# Altium schematic symbol library Project Resistors.SchLib: 36 symbols
Pins are listed as number, name and electrical type; pins without a type are passive.

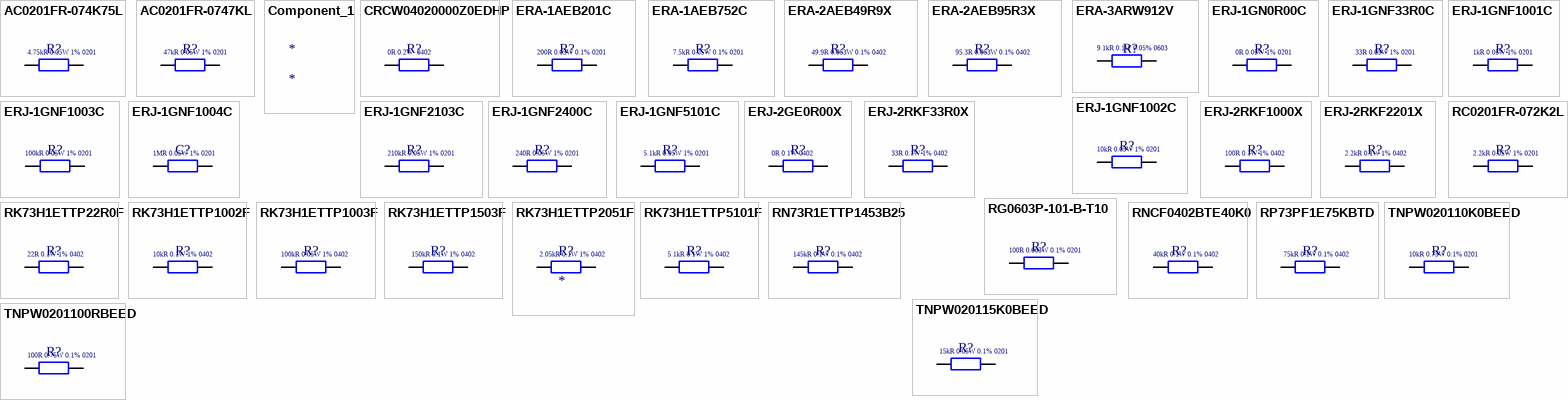
[diagram p0: symbols AC0201FR-074K75L to TNPW0201100RBEED]

## AC0201FR-074K75L
designator R?  (value not drawn)
4.75 kOhms ±1% 0.05W, 1/20W Chip Resistor 0201 (0603 Metric) Automotive AEC-Q200, Moisture Resistant Thick Film; ComponentLink1Description: New link; ComponentLink1URL: https://www.digikey.com.au/en/products/detail/yageo/AC0201FR-074K75L/5894685; Supplier 1: Digikey; Supplier Part Number 1: YAG5220CT-ND
footprint RESC0603X03L (Chip Resistor, Body 0.6x0.3mm, IPC High Density (0201 Imperial))
pins: 1, 2
text: 4.75kR 0.05W 1% 0201

## AC0201FR-0747KL
designator R?  (value not drawn)
47 kOhms ±1% 0.05W, 1/20W Chip Resistor 0201 (0603 Metric) Automotive AEC-Q200, Moisture Resistant Thick Film; ComponentLink1Description: New link; ComponentLink1URL: https://www.digikey.com.au/en/products/detail/yageo/AC0201FR-0747KL/5894664; Supplier 1: Digikey; Supplier Part Number 1: YAG3425CT-ND
footprint RESC0603X03L (Chip Resistor, Body 0.6x0.3mm, IPC High Density (0201 Imperial))
pins: 1, 2
text: 47kR 0.05W 1% 0201

## Component_1
designator *

## CRCW04020000Z0EDHP
designator R?  (value not drawn)
0 Ohms Jumper Chip Resistor 0402 (1005 Metric) Automotive AEC-Q200, Pulse Withstanding Thick Film; ComponentLink1Description: New link; ComponentLink1URL: https://www.digikey.com.au/en/products/detail/vishay-dale/CRCW04020000Z0EDHP/2222496; Supplier 1: Mouser; Supplier Part Number 1: 71-CRCW04020000Z0EDH
footprint RESC1005X04L (Chip Resistor, Body 1.0x0.5mm, IPC High Density (0402 Imperial))
pins: 1, 2
text: 0R 0.2W  0402

## ERA-1AEB201C
designator R?  (value not drawn)
200 Ohms ±0.1% 0.05W, 1/20W Chip Resistor 0201 (0603 Metric) Automotive AEC-Q200 Thin Film; ComponentLink1Description: New link; ComponentLink1URL: https://www.digikey.com.au/en/products/detail/panasonic-electronic-components/ERA-1AEB201C/5035575; Supplier 1: Mouser; Supplier Part Number 1: 667-ERA-1AEB201C
footprint RESC0603X03L (Chip Resistor, Body 0.6x0.3mm, IPC High Density (0201 Imperial))
pins: 1, 2
text: 200R 0.05W 0.1% 0201

## ERA-1AEB752C
designator R?  (value not drawn)
7.5 kOhms ±0.1% 0.05W, 1/20W Chip Resistor 0201 (0603 Metric) Automotive AEC-Q200 Thin Film; ComponentLink1Description: New link; ComponentLink1URL: https://www.digikey.com.au/en/products/detail/panasonic-electronic-components/ERA-1AEB752C/5035578; Supplier 1: Mouser; Supplier Part Number 1: 667-ERA-1AEB752C
footprint RESC0603X03L (Chip Resistor, Body 0.6x0.3mm, IPC High Density (0201 Imperial))
pins: 1, 2
text: 7.5kR 0.05W 0.1% 0201

## ERA-2AEB49R9X
designator R?  (value not drawn)
49.9 Ohms ±0.1% 0.063W, 1/16W Chip Resistor 0402 (1005 Metric) Automotive AEC-Q200 Thin Film
footprint RESC1005X04L (Chip Resistor, Body 1.0x0.5mm, IPC High Density (0402 Imperial))
pins: 1, 2
text: 49.9R 0.063W 0.1% 0402

## ERA-2AEB95R3X
designator R?  (value not drawn)
95.3 Ohms ±0.1% 0.063W, 1/16W Chip Resistor 0402 (1005 Metric) Automotive AEC-Q200 Thin Film
footprint RESC1005X04L (Chip Resistor, Body 1.0x0.5mm, IPC High Density (0402 Imperial))
pins: 1, 2
text: 95.3R 0.063W 0.1% 0402

## ERA-3ARW912V
designator R?  (value not drawn)
9.1 kOhms ±0.05% 0.1W, 1/10W Chip Resistor 0603 (1608 Metric) Automotive AEC-Q200 Thin Film; ComponentLink1Description: New link; ComponentLink1URL: https://www.digikey.com.au/en/products/detail/panasonic-electronic-components/ERA-3ARW912V/3073730; Supplier 1: Mouser; Supplier Part Number 1: 667-ERA-3ARW912V
footprint RESC1608X06L (Chip Resistor, Body 1.6x0.8mm, IPC High Density (0603 Imperial))
pins: 1, 2
text: 9.1kR 0.1W 0.05% 0603

## ERJ-1GN0R00C
designator R?  (value not drawn)
0 Ohms Jumper Chip Resistor 0201 (0603 Metric) Thick Film; ComponentLink1Description: New link; ComponentLink1URL: https://www.digikey.com.au/en/products/detail/panasonic-electronic-components/ERJ-1GN0R00C/3982613; Supplier 1: Mouser; Supplier Part Number 1: 667-ERJ-1GN0R00C
footprint RESC0603X03L (Chip Resistor, Body 0.6x0.3mm, IPC High Density (0201 Imperial))
pins: 1, 2
text: 0R 0.05W 1% 0201

## ERJ-1GNF33R0C
designator R?  (value not drawn)
33 Ohms ±1% 0.05W, 1/20W Chip Resistor 0201 (0603 Metric) Thick Film; ComponentLink1Description: New link; ComponentLink1URL: https://www.digikey.com.au/en/products/detail/panasonic-electronic-components/ERJ-1GNF33R0C/2035941; Supplier 1: Mouser; Supplier Part Number 1: 667-ERJ-1GNF33R0C
footprint RESC0603X03L (Chip Resistor, Body 0.6x0.3mm, IPC High Density (0201 Imperial))
pins: 1, 2
text: 33R 0.05W 1% 0201

## ERJ-1GNF1001C
designator R?  (value not drawn)
1 kOhms ±1% 0.05W, 1/20W Chip Resistor 0201 (0603 Metric) Thick Film; Supplier 1: Mouser; Supplier Part Number 1: 667-ERJ-1GNF1001C
footprint RESC0603X03L (Chip Resistor, Body 0.6x0.3mm, IPC High Density (0201 Imperial))
pins: 1, 2
text: 1kR 0.05W 1% 0201

## ERJ-1GNF1002C
designator R?  (value not drawn)
10 kOhms ±1% 0.05W, 1/20W Chip Resistor 0201 (0603 Metric) Thick Film; ComponentLink1Description: New link; ComponentLink1URL: https://www.digikey.com.au/en/products/detail/panasonic-electronic-components/ERJ-1GNF1002C/2036226; Supplier 1: Mouser; Supplier Part Number 1: 667-ERJ-1GNF1002C
footprint RESC0603X03L (Chip Resistor, Body 0.6x0.3mm, IPC High Density (0201 Imperial))
pins: 1, 2
text: 10kR 0.05W 1% 0201

## ERJ-1GNF1003C
designator R?  (value not drawn)
100 kOhms ±1% 0.05W, 1/20W Chip Resistor 0201 (0603 Metric) Thick Film; ComponentLink1Description: New link; ComponentLink1URL: https://www.digikey.com.au/en/products/detail/panasonic-electronic-components/ERJ-1GNF1003C/2036340; Supplier 1: Mouser; Supplier Part Number 1: 667-ERJ-1GNF1003C
footprint RESC0603X03L (Chip Resistor, Body 0.6x0.3mm, IPC High Density (0201 Imperial))
pins: 1, 2
text: 100kR 0.05W 1% 0201

## ERJ-1GNF1004C
designator C?  (value not drawn)
1 MOhms ±1% 0.05W, 1/20W Chip Resistor 0201 (0603 Metric) Thick Film; ComponentLink1Description: New link; ComponentLink1URL: https://www.digikey.com.au/en/products/detail/panasonic-electronic-components/ERJ-1GNF1004C/2036455; Supplier 1: Mouser; Supplier Part Number 1: 667-ERJ-1GNF1004C
footprint RESC0603X03N (Chip Resistor, Body 0.6x0.3mm, IPC Medium Density (0201 Imperial))
pins: 1, 2
text: 1MR 0.05W 1% 0201

## ERJ-1GNF2103C
designator R?  (value not drawn)
210 kOhms ±1% 0.05W, 1/20W Chip Resistor 0201 (0603 Metric) Thick Film; ComponentLink1Description: New link; ComponentLink1URL: https://www.digikey.com.au/en/products/detail/panasonic-electronic-components/ERJ-1GNF2103C/2036374; Supplier 1: Mouser; Supplier Part Number 1: 667-ERJ-1GNF2103C
footprint RESC0603X03L (Chip Resistor, Body 0.6x0.3mm, IPC High Density (0201 Imperial))
pins: 1, 2
text: 210kR 0.05W 1% 0201

## ERJ-1GNF2400C
designator R?  (value not drawn)
240 Ohms ±1% 0.05W, 1/20W Chip Resistor 0201 (0603 Metric) Thick Film; ComponentLink1Description: New link; ComponentLink1URL: https://www.digikey.com.au/en/products/detail/panasonic-electronic-components/ERJ-1GNF2400C/2036039; Supplier 1: Mouser; Supplier Part Number 1: 667-ERJ-1GNF2400C
footprint RESC0603X03L (Chip Resistor, Body 0.6x0.3mm, IPC High Density (0201 Imperial))
pins: 1, 2
text: 240R 0.05W 1% 0201

## ERJ-1GNF5101C
designator R?  (value not drawn)
5.1 kOhms ±1% 0.05W, 1/20W Chip Resistor 0201 (0603 Metric) Thick Film; ComponentLink1Description: New link; ComponentLink1URL: https://www.digikey.com.au/en/products/detail/panasonic-electronic-components/ERJ-1GNF5101C/2036192; Supplier 1: Mouser; Supplier Part Number 1: 667-ERJ-1GNF5101C
footprint RESC0603X03L (Chip Resistor, Body 0.6x0.3mm, IPC High Density (0201 Imperial))
pins: 1, 2
text: 5.1kR 0.05W 1% 0201

## ERJ-2GE0R00X
designator R?  (value not drawn)
0 Ohms Jumper Chip Resistor 0402 (1005 Metric) Automotive AEC-Q200 Thick Film
footprint RESC1005X04N (Chip Resistor, Body 1.0x0.5mm, IPC Medium Density (0402 Imperial))
pins: 1, 2
text: 0R 0.1W 0402

## ERJ-2RKF33R0X
designator R?  (value not drawn)
33 Ohms ±1% 0.1W, 1/10W Chip Resistor 0402 (1005 Metric) Automotive AEC-Q200 Thick Film
footprint RESC1005X04L (Chip Resistor, Body 1.0x0.5mm, IPC High Density (0402 Imperial))
pins: 1, 2
text: 33R 0.1W 1% 0402

## ERJ-2RKF1000X
designator R?  (value not drawn)
100 Ohms ±1% 0.1W, 1/10W Chip Resistor 0402 (1005 Metric) Automotive AEC-Q200 Thick Film; ComponentLink1Description: New link; ComponentLink1URL: https://www.digikey.com.au/en/products/detail/panasonic-electronic-components/ERJ-2RKF1000X/192080; Supplier 1: Mouser; Supplier Part Number 1: 667-ERJ-2RKF1000X
footprint RESC1005X04L (Chip Resistor, Body 1.0x0.5mm, IPC High Density (0402 Imperial))
pins: 1, 2
text: 100R 0.1W 1% 0402

## ERJ-2RKF2201X
designator R?  (value not drawn)
RES SMD 2.2K OHM 1% 1/10W 0402
footprint RESC1005X04N (Chip Resistor, Body 1.0x0.5mm, IPC Medium Density (0402 Imperial))
pins: 1, 2
text: 2.2kR 0.1W 1% 0402

## RC0201FR-072K2L
designator R?  (value not drawn)
2.2 kOhms ±1% 0.05W, 1/20W Chip Resistor 0201 (0603 Metric) Moisture Resistant Thick Film; Supplier 1: Digikey; Supplier Part Number 1: YAG2572CT-ND
footprint RESC0603X03L (Chip Resistor, Body 0.6x0.3mm, IPC High Density (0201 Imperial))
pins: 1, 2
text: 2.2kR 0.05W 1% 0201

## RG0603P-101-B-T10
designator R?  (value not drawn)
100 Ohms ±0.1% 0.063W, 1/16W Chip Resistor 0201 (0603 Metric) Anti-Sulfur, Automotive AEC-Q200 Thin Film; ComponentLink1Description: New link; ComponentLink1URL: https://www.digikey.com.au/en/products/detail/susumu/RG0603P-101-B-T10/18103203; Supplier 1: Digikey; Supplier Part Number 1: 408-RG0603P-101-B-T10CT-ND
footprint RESC0603X03L (Chip Resistor, Body 0.6x0.3mm, IPC High Density (0201 Imperial))
pins: 1, 2
text: 100R 0.063W 0.1% 0201

## RK73H1ETTP22R0F
designator R?  (value not drawn)
22 Ohms ±1% 0.1W, 1/10W Chip Resistor 0402 (1005 Metric) Automotive AEC-Q200 Thick Film
footprint RESC1005X04N (Chip Resistor, Body 1.0x0.5mm, IPC Medium Density (0402 Imperial))
pins: 1, 2
text: 22R 0.1W 1% 0402

## RK73H1ETTP1002F
designator R?  (value not drawn)
10 kOhms ±1% 0.1W, 1/10W Chip Resistor 0402 (1005 Metric) Automotive AEC-Q200 Thick Film
footprint RESC1005X04N (Chip Resistor, Body 1.0x0.5mm, IPC Medium Density (0402 Imperial))
pins: 1, 2
text: 10kR 0.1W 1% 0402

## RK73H1ETTP1003F
designator R?  (value not drawn)
100 kOhms ±1% 0.1W, 1/10W Chip Resistor 0402 (1005 Metric) Automotive AEC-Q200 Thick Film
footprint RESC1005X04N (Chip Resistor, Body 1.0x0.5mm, IPC Medium Density (0402 Imperial))
pins: 1, 2
text: 100kR 0.05W 1% 0402

## RK73H1ETTP1503F
designator R?  (value not drawn)
150 kOhms ±1% 0.1W, 1/10W Chip Resistor 0402 (1005 Metric) Automotive AEC-Q200 Thick Film; ComponentLink1Description: New link; ComponentLink1URL: https://www.digikey.com/en/products/detail/koa-speer-electronics-inc/RK73H1ETTP1503F/9844093; Supplier 1: Digikey; Supplier Part Number 1: 2019-RN73R1ETTP1453B25CT-ND
footprint RESC1005X04L (Chip Resistor, Body 1.0x0.5mm, IPC High Density (0402 Imperial))
pins: 1, 2
text: 150kR 0.1W 1% 0402

## RK73H1ETTP2051F
designator R?
2.05 kOhms ±1% 0.1W, 1/10W Chip Resistor 0402 (1005 Metric) Automotive AEC-Q200 Thick Film; Supplier 1: DigiKey; Supplier Part Number 1: 2019-RK73H1ETTP2051FCT-ND
footprint RESC1005X04N (Chip Resistor, Body 1.0x0.5mm, IPC Medium Density (0402 Imperial))
pins: 1, 2
text: 2.05kR 0.1W 1% 0402

## RK73H1ETTP5101F
designator R?  (value not drawn)
5.1 kOhms ±1% 0.1W, 1/10W Chip Resistor 0402 (1005 Metric) Automotive AEC-Q200 Thick Film
footprint RESC1005X04N (Chip Resistor, Body 1.0x0.5mm, IPC Medium Density (0402 Imperial))
pins: 1, 2
text: 5.1kR 0.1W 1% 0402

## RN73R1ETTP1453B25
designator R?  (value not drawn)
145 kOhms ±0.1% 0.1W, 1/10W Chip Resistor 0402 (1005 Metric) Automotive AEC-Q200, Moisture Resistant Thin Film; ComponentLink1Description: New link; ComponentLink1URL: https://www.digikey.com.au/en/products/detail/koa-speer-electronics-inc/RN73R1ETTP1453B25/10000893; Supplier 1: Digikey; Supplier Part Number 1: 2019-RN73R1ETTP1453B25CT-ND
footprint RESC1005X04L (Chip Resistor, Body 1.0x0.5mm, IPC High Density (0402 Imperial))
pins: 1, 2
text: 145kR 0.1W 0.1% 0402

## RNCF0402BTE40K0
designator R?  (value not drawn)
40 kOhms ±0.1% 0.1W, 1/10W Chip Resistor 0402 (1005 Metric) Automotive AEC-Q200 Thin Film; ComponentLink1Description: New link; ComponentLink1URL: https://www.digikey.com.au/en/products/detail/stackpole-electronics-inc/RNCF0402BTE40K0/6259278; Supplier 1: Digikey; Supplier Part Number 1: 738-RNCF0402BTE40K0CT-ND
footprint RESC1005X04L (Chip Resistor, Body 1.0x0.5mm, IPC High Density (0402 Imperial))
pins: 1, 2
text: 40kR 0.1W 0.1% 0402

## RP73PF1E75KBTD
designator R?  (value not drawn)
75 kOhms ±0.1% 0.1W, 1/10W Chip Resistor 0402 (1005 Metric) Thin Film; ComponentLink1Description: New link; ComponentLink1URL: https://www.digikey.com/en/products/detail/te-connectivity-passive-product/RP73PF1E75KBTD/8261041; Supplier 1: Digikey; Supplier Part Number 1: A127499CT-ND
footprint RESC1005X04L (Chip Resistor, Body 1.0x0.5mm, IPC High Density (0402 Imperial))
pins: 1, 2
text: 75kR 0.1W 0.1% 0402

## TNPW020110K0BEED
designator R?  (value not drawn)
10 kOhms ±0.1% 0.075W Chip Resistor 0201 (0603 Metric) Anti-Sulfur, Automotive AEC-Q200, Moisture Resistant Thin Film; Supplier 1: Mouser; Supplier Part Number 1: 71-TNPW020110K0BEED
footprint RESC0603X03N (Chip Resistor, Body 0.6x0.3mm, IPC Medium Density (0201 Imperial))
pins: 1, 2
text: 10kR 0.75W 0.1% 0201

## TNPW020115K0BEED
designator R?  (value not drawn)
15 kOhms ±0.1% 0.075W Chip Resistor 0201 (0603 Metric) Anti-Sulfur, Automotive AEC-Q200, Moisture Resistant Thin Film; ComponentLink1Description: New link; ComponentLink1URL: https://www.digikey.com.au/en/products/detail/vishay-dale/TNPW020115K0BEED/11611074; Supplier 1: Mouser; Supplier Part Number 1: 71-TNPW020115K0BEED
footprint RESC0603X03L (Chip Resistor, Body 0.6x0.3mm, IPC High Density (0201 Imperial))
pins: 1, 2
text: 15kR 0.05W 0.1% 0201

## TNPW0201100RBEED
designator R?  (value not drawn)
100 Ohms ±0.1% 0.075W Chip Resistor 0201 (0603 Metric) Anti-Sulfur, Automotive AEC-Q200, Moisture Resistant Thin Film; Supplier 1: Mouser; Supplier Part Number 1: 71-TNPW0201100RBEED
footprint RESC0603X03L (Chip Resistor, Body 0.6x0.3mm, IPC High Density (0201 Imperial))
pins: 1, 2
text: 100R 0.75W 0.1% 0201